# EAGLE library part STM32F051K6T6 (library circuit_tree)
IC
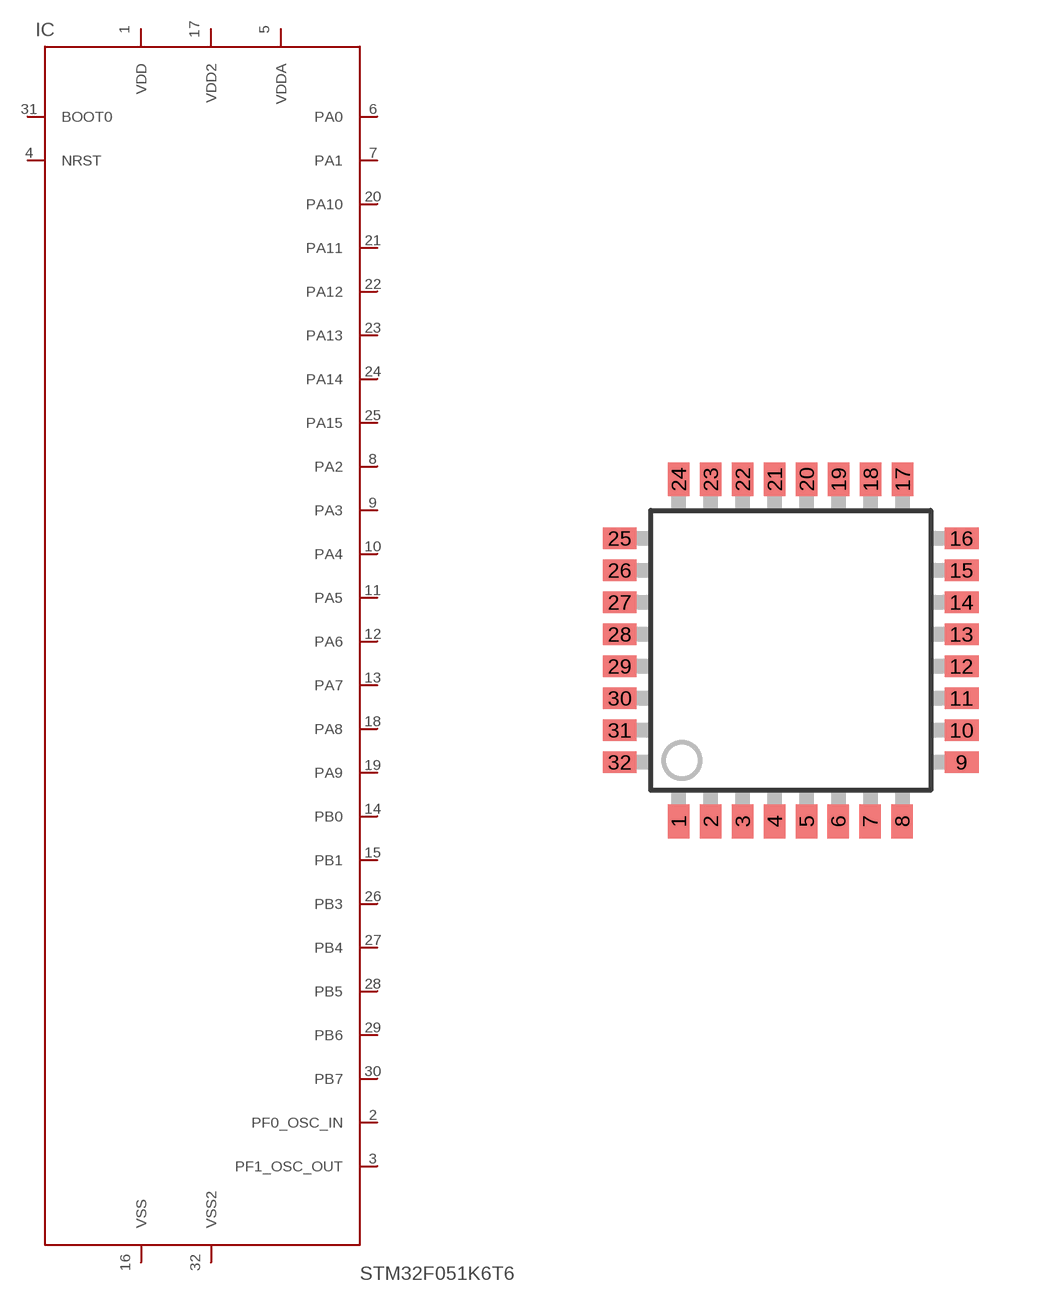
[diagram p4: symbol with the pads of LQFP32; footprint LQFP32]

Designator prefix IC

## STM32F051K6T6  [LQFP32]
1  VDD  pas
2  PF0_OSC_IN  pas
3  PF1_OSC_OUT  pas
4  NRST  pas
5  VDDA  pas
6  PA0  pas
7  PA1  pas
8  PA2  pas
9  PA3  pas
10  PA4  pas
11  PA5  pas
12  PA6  pas
13  PA7  pas
14  PB0  pas
15  PB1  pas
16  VSS  pas
17  VDD2  pas
18  PA8  pas
19  PA9  pas
20  PA10  pas
21  PA11  pas
22  PA12  pas
23  PA13  pas
24  PA14  pas
25  PA15  pas
26  PB3  pas
27  PB4  pas
28  PB5  pas
29  PB6  pas
30  PB7  pas
31  BOOT0  pas
32  VSS2  pas

## Footprint LQFP32 (pad centres in mm)
LQFP32 7 x 7 mm, 32-pin low-profile quad flat package
smd 0.54 x 0.85: 1 -2.8,-4.275; 2 -2,-4.275; 3 -1.2,-4.275; 4 -0.4,-4.275; 5 0.4,-4.275; 6 1.19,-4.275; 7 1.99,-4.275; 8 2.79,-4.275; 17 2.8,4.275; 18 2,4.275; 19 1.2,4.275; 20 0.4,4.275; 21 -0.4,4.275; 22 -1.2,4.275; 23 -2,4.275; 24 -2.8,4.275
smd 0.85 x 0.54: 9 4.275,-2.8; 10 4.275,-2; 11 4.275,-1.2; 12 4.275,-0.4; 13 4.275,0.4; 14 4.275,1.2; 15 4.275,2; 16 4.275,2.8; 25 -4.275,2.8; 26 -4.275,2; 27 -4.275,1.2; 28 -4.275,0.4; 29 -4.275,-0.4; 30 -4.275,-1.2; 31 -4.275,-2; 32 -4.275,-2.8